# EAGLE library part FTDI (library Mechanical)
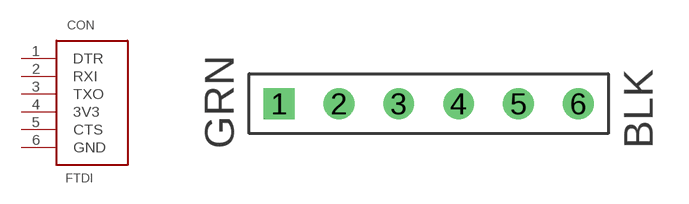
[diagram p1: symbol with the pads of PINHEADER(1X6); footprint PINHEADER(1X6)]

Designator prefix CON

## FTDI(1X6)  [PINHEADER(1X6)]
1  DTR
2  RXI
3  TXO
4  3V3
5  CTS
6  GND

## Footprint PINHEADER(1X6) (pad centres in mm)
drill 0.8 square: 1 -6.35,0
drill 0.8: 2 -3.81,0; 3 -1.27,0; 4 1.27,0; 5 3.81,0; 6 6.35,0